# Altium footprint library PS29_XYD.PcbLib: 36 footprints (part 3 of 3)
Each footprint in its own frame and in the unit in brackets; x right, y up, seen from the top. Pads: shape width x height; smd on the part's side, far side on the other; paste and mask are expansions set on the pad; w line width, h text height; cw(c..) or ccw(c..) is an arc to the next point about the centre after c.
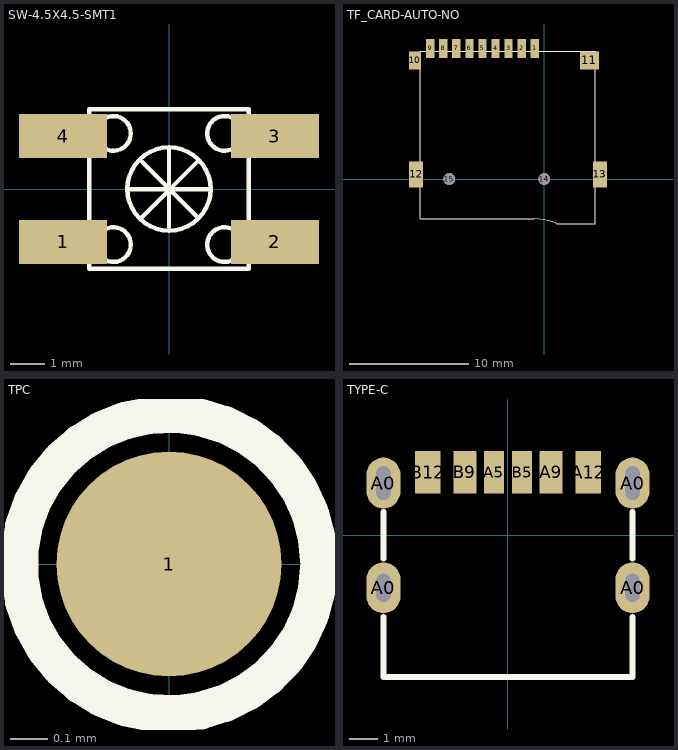
[diagram p2: the footprints below, top view; thin cyan lines are the x and y axes]

## SW-4.5X4.5-SMT1 [mil]
pads (4):
  rect 100x50 smd: 1(-120,-60) 2(120,-60) 3(120,60) 4(-120,60)
Top Overlay:
  circle w5: c62.99,-62.99 r19.68
  circle w5: c-62.99,-62.99 r19.68
  circle w5: c-62.99,62.99 r19.68
  circle w5: c62.99,62.99 r19.68
  circle w5: c0,0 r47.24
  lines w5: -44.36,-0.25 44.79,-0.25 ; -30.92,31.14 31.51,-31.29 ; -30.68,-31.89 31.85,30.64 ; -0.03,-43.19 -0.03,44.21 ; -90.55,-90.55 -90.55,90.55 90.55,90.55 90.55,-90.55 -90.55,-90.55

## TF_CARD-AUTO-NO [mm]
pads (15):
  rect 0.7x1.6 smd: 1(-0.8,11) 2(-1.9,11) 3(-3,11) 4(-4.1,11) 5(-5.2,11) 6(-6.3,11) 7(-7.4,11) 8(-8.5,11) 9(-9.6,11)
  rect 1x1.5 smd: 10(-10.9,10)
  rect 1.6x1.5 smd: 11(3.8,10)
  rect 1.2x2.2 smd: 12(-10.8,0.4) 13(4.7,0.4)
  round 1 hole 1 unplated: 14(0,0) 15(-8,0)
Top Overlay:
  lines w0.1: -10.432,10.749 4.329,10.749 ; -10.429,-3.35 -0.825,-3.35 ; -10.429,-3.301 -10.429,10.751 ; -0.802,-3.35 cw(c-0.926,-8.411) 1.044,-3.747 ; 1.05,-3.75 4.321,-3.75 ; 4.321,-3.775 4.321,10.751

## TPC [mm]
pads (1):
  round 0.6 smd: 1(0,0)
Top Overlay:
  circle w0.1: c0,0 r0.4

## TYPE-C [mm]
pads (10):
  oval 1.2x1.8 hole 0.5 slot 1 at 90 deg: A0(-4.4,-1.85) A0(4.4,-1.85)
  oval 1.2x1.8 hole 0.5 slot 1.2 at 90 deg: A0(-4.4,1.85) A0(4.4,1.85)
  rect 0.7x1.5 smd: A5(-0.5,2.231) B5(0.5,2.231)
  rect 0.8x1.5 smd: A9(1.52,2.231) B9(-1.52,2.231)
  rect 0.9x1.5 smd: A12(2.83,2.231) B12(-2.83,2.231)
Top Overlay:
  lines w0.2: -4.4,-2.87 -4.4,-5 4.4,-5 4.4,-2.88 ; -4.4,-0.83 -4.4,0.83 ; 4.4,-0.82 4.4,0.83